# EAGLE library part SN74LV11AD (library SN74LV11AD)
AND Gate Triple 3-IN CMOS 14-Pin SOIC Texas Instruments SN74LV11AD, Triple 3-Input AND Logic Gate, 2 5.5 V, 14-Pin SOIC Source: Datasheet <http://www.ti.com/lit/ds/sces345d/sces345d.pdf>
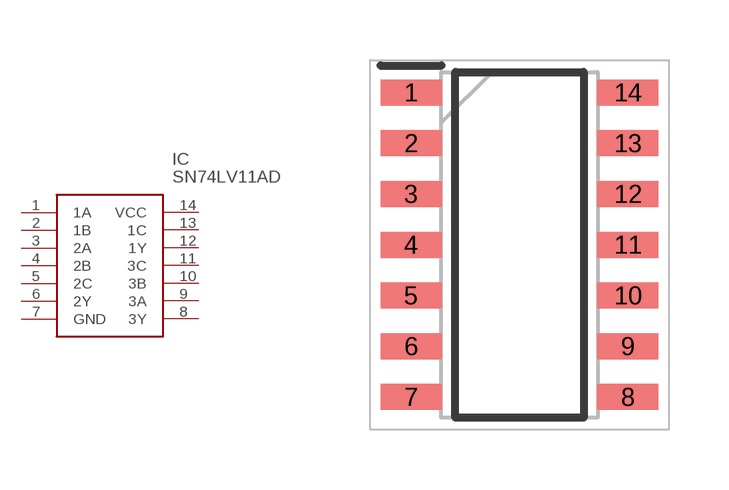
[diagram p0: symbol with the pads of SOIC127P600X175-14N; footprint SOIC127P600X175-14N]

Designator prefix IC

## SN74LV11AD (Arrow_Part_Number: SN74LV11AD; Arrow_Price-Stock: https://www.arrow.com/en/products/sn74lv11ad/texas-instruments; Description: AND Gate Triple 3-IN CMOS 14-Pin SOIC Texas Instruments SN74LV11AD, Triple 3-Input AND Logic Gate, 2 5.5 V, 14-Pin SOIC; Height: 1.75mm; Manufacturer_Name: Texas Instruments; Manufacturer_Part_Number: SN74LV11AD; Mouser_Part_Number: 595-SN74LV11AD; Mouser_Price-Stock: https://www.mouser.co.uk/ProductDetail/Texas-Instruments/SN74LV11AD?qs=j01uVdFEFjF0ZgtTmp3b8A%3D%3D)  [SOIC127P600X175-14N]
1  1A  in
2  1B  in
3  2A  in
4  2B  in
5  2C  in
6  2Y  out
7  GND  pwr
8  3Y  out
9  3A  in
10  3B  in
11  3C  in
12  1Y  out
13  1C  in
14  VCC  pwr

## Footprint SOIC127P600X175-14N (pad centres in mm)
Brian
smd 1.525 x 0.65: 1 -2.712,3.81; 2 -2.712,2.54; 3 -2.712,1.27; 4 -2.712,0; 5 -2.712,-1.27; 6 -2.712,-2.54; 7 -2.712,-3.81; 8 2.712,-3.81; 9 2.712,-2.54; 10 2.712,-1.27; 11 2.712,0; 12 2.712,1.27; 13 2.712,2.54; 14 2.712,3.81